# Altium footprint library USBB-1J.PcbLib: 1 footprints
Each footprint in its own frame and in the unit in brackets; x right, y up, seen from the top. Pads: shape width x height; smd on the part's side, far side on the other; paste and mask are expansions set on the pad; w line width, h text height; cw(c..) or ccw(c..) is an arc to the next point about the centre after c.
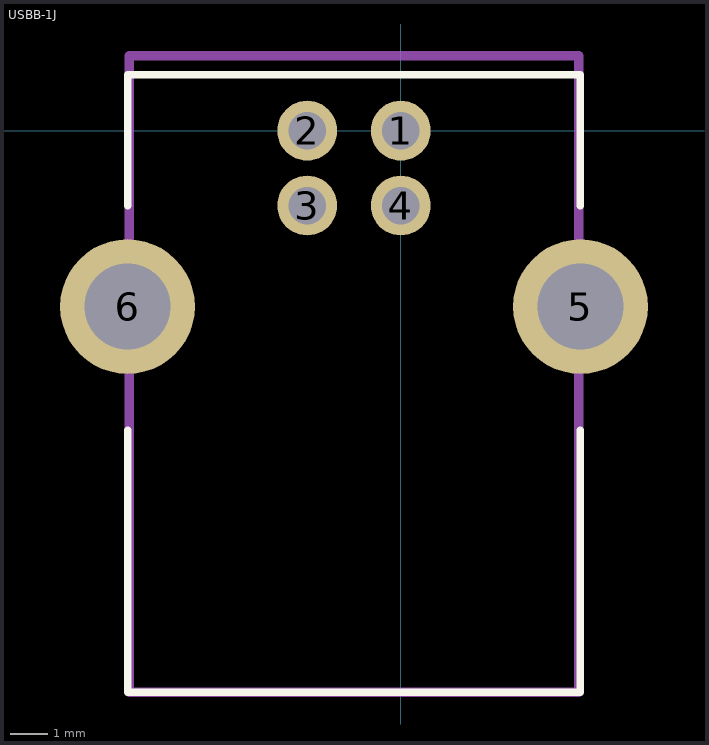
[diagram p0: the footprint, top view; thin cyan lines are the x and y axes]

## USBB-1J [mm]
pads (6):
  round 1.6 hole 1: 1(0,0) 2(-2.5,0) 3(-2.5,-2) 4(0,-2)
  round 3.6 hole 2.3: 5(4.8,-4.7) 6(-7.3,-4.7)
Top Overlay:
  lines w0.2: -7.3,-8 -7.3,-15 4.8,-15 4.8,-8 ; -7.3,-2 -7.3,1.5 4.8,1.5 4.8,-2
Mechanical 2:
  lines w0.25: -7.25,-15 -7.25,-6.5 ; -7.25,-3 -7.25,2 4.75,2 4.75,-3 ; 4.75,-15 4.75,-6.5
  lines w0.254: -7.25,-15 4.75,-15
3D body "User Library-Samtec - USB-B-S-X-W-TH.STEP": height 11, standoff -3.64, extent -8.696,-15.15 6.1,1.35